# EAGLE library part TPS2114A (library greg-IC)
Autoswitching Power MUX The TPS211xA family of power multiplexers enables seameless transition between two power supplies (such as a battery and a wall adapter), each operating at 2.8V to 5.5V and delivering up to 2A depending on the package. The TPS211xA family includes extensive protection circuitry including user-programmable current limiting, thermal protection, inrush current control, seamless supply transition, cross-conduction blocking, and reverse-conduction blocking. These features greatly simplify designing power multiplexer applications. Datasheet <http://www.ti.com/lit/ds/symlink/tps2114a.pdf>
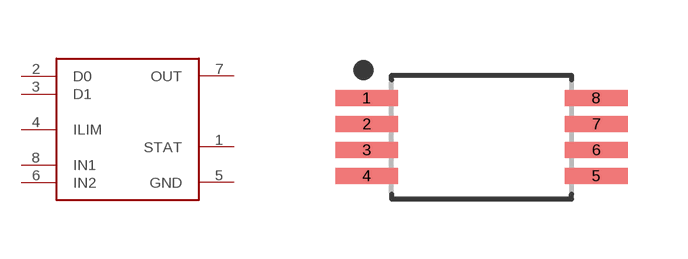
[diagram p16: symbol with the pads of SOP65P640X120-8N; footprint SOP65P640X120-8N]

Designator prefix -

## TPS2114APW  [SOP65P640X120-8N]
1  STAT  hiz
2  D0  in
3  D1  in
4  ILIM  in
5  GND
6  IN2  in
7  OUT  out
8  IN1  in

## Footprint SOP65P640X120-8N (pad centres in mm)
8-SOP, 0.65 mm pitch, 6.40 mm span, 3.00 X 4.40 X 1.20 mm body 8-pin SOP package with 0.65 mm pitch, 6.40 mm span with body size 3.00 X 4.40 X 1.20 mm
smd 1.572 x 0.407: 1 -2.872,0.975; 2 -2.872,0.325; 3 -2.872,-0.325; 4 -2.872,-0.975; 5 2.872,-0.975; 6 2.872,-0.325; 7 2.872,0.325; 8 2.872,0.975